# EAGLE library part ZORRO_II (library crasbe)
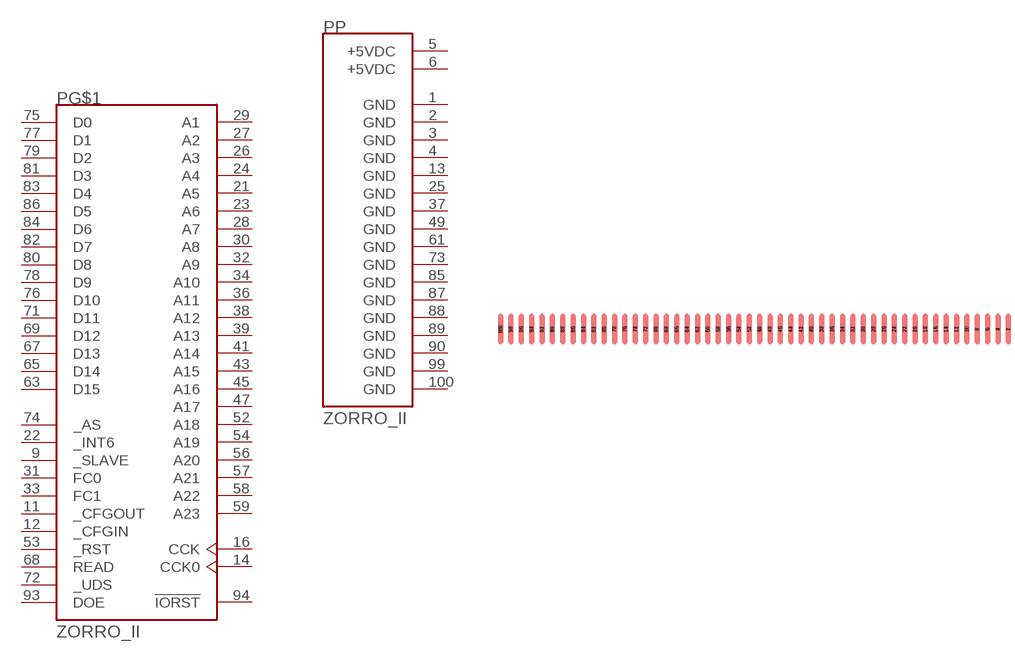
[diagram p8: symbol with the pads of 100PIN-CARDEDGE; footprint 100PIN-CARDEDGE]

Designator prefix P; gates G$1=ZORRO_II P=ZORRO_II_PWR

## ZORRO_II  [100PIN-CARDEDGE]
1  P:GND  pwr
2  P:GND  pwr
3  P:GND  pwr
4  P:GND  pwr
5  P:+5VDC  pwr
6  P:+5VDC  pwr
9  G$1:_SLAVE  in
11  G$1:_CFGOUT  in
12  G$1:_CFGIN  out
13  P:GND  pwr
14  G$1:CCK0  in
16  G$1:CCK  in
21  G$1:A5
22  G$1:_INT6  in
23  G$1:A6  in
24  G$1:A4  in
25  P:GND  pwr
26  G$1:A3  in
27  G$1:A2  in
28  G$1:A7  in
29  G$1:A1  in
30  G$1:A8  in
31  G$1:FC0  out
32  G$1:A9  in
33  G$1:FC1  out
34  G$1:A10  in
36  G$1:A11  in
37  P:GND  pwr
38  G$1:A12  in
39  G$1:A13  in
41  G$1:A14  in
43  G$1:A15
45  G$1:A16  in
47  G$1:A17  in
49  P:GND  pwr
52  G$1:A18  in
53  G$1:_RST  in
54  G$1:A19  in
56  G$1:A20  in
57  G$1:A21  in
58  G$1:A22  in
59  G$1:A23
61  P:GND  pwr
63  G$1:D15
65  G$1:D14
67  G$1:D13
68  G$1:READ  out
69  G$1:D12
71  G$1:D11
72  G$1:_UDS  out
73  P:GND  pwr
74  G$1:_AS  out
75  G$1:D0
76  G$1:D10
77  G$1:D1
78  G$1:D9
79  G$1:D2
80  G$1:D8
81  G$1:D3
82  G$1:D7
83  G$1:D4
84  G$1:D6
85  P:GND  pwr
86  G$1:D5
87  P:GND  pwr
88  P:GND  pwr
89  P:GND  pwr
90  P:GND  pwr
93  G$1:DOE  out
94  G$1:!IORST  out
99  P:GND  pwr
100  P:GND  pwr

## Footprint 100PIN-CARDEDGE (pad centres in mm)
smd 1.27 x 7.62 bottom: 1 62.23,0; 3 59.69,0; 5 57.15,0; 7 54.61,0; 9 52.07,0; 11 49.53,0; 13 46.99,0; 15 44.45,0; 17 41.91,0; 19 39.37,0; 21 36.83,0; 23 34.29,0; 25 31.75,0; 27 29.21,0; 29 26.67,0; 31 24.13,0; 33 21.59,0; 35 19.05,0; 37 16.51,0; 39 13.97,0; 41 11.43,0; 43 8.89,0; 45 6.35,0; 47 3.81,0; 49 1.27,0; 51 -1.27,0; 53 -3.81,0; 55 -6.35,0; 57 -8.89,0; 59 -11.43,0; 61 -13.97,0; 63 -16.51,0; 65 -19.05,0; 67 -21.59,0; 69 -24.13,0; 71 -26.67,0; 73 -29.21,0; 75 -31.75,0; 77 -34.29,0; 79 -36.83,0; 81 -39.37,0; 83 -41.91,0; 85 -44.45,0; 87 -46.99,0; 89 -49.53,0; 91 -52.07,0; 93 -54.61,0; 95 -57.15,0; 97 -59.69,0; 99 -62.23,0
smd 1.27 x 7.62: 2 62.23,0; 4 59.69,0; 6 57.15,0; 8 54.61,0; 10 52.07,0; 12 49.53,0; 14 46.99,0; 16 44.45,0; 18 41.91,0; 20 39.37,0; 22 36.83,0; 24 34.29,0; 26 31.75,0; 28 29.21,0; 30 26.67,0; 32 24.13,0; 34 21.59,0; 36 19.05,0; 38 16.51,0; 40 13.97,0; 42 11.43,0; 44 8.89,0; 46 6.35,0; 48 3.81,0; 50 1.27,0; 52 -1.27,0; 54 -3.81,0; 56 -6.35,0; 58 -8.89,0; 60 -11.43,0; 62 -13.97,0; 64 -16.51,0; 66 -19.05,0; 68 -21.59,0; 70 -24.13,0; 72 -26.67,0; 74 -29.21,0; 76 -31.75,0; 78 -34.29,0; 80 -36.83,0; 82 -39.37,0; 84 -41.91,0; 86 -44.45,0; 88 -46.99,0; 90 -49.53,0; 92 -52.07,0; 94 -54.61,0; 96 -57.15,0; 98 -59.69,0; 100 -62.23,0